# Altium footprint library TDK Corporation.PcbLib: 33 footprints (part 1 of 3)
Each footprint in its own frame and in the unit in brackets; x right, y up, seen from the top. Pads: shape width x height; smd on the part's side, far side on the other; paste and mask are expansions set on the pad; w line width, h text height; cw(c..) or ccw(c..) is an arc to the next point about the centre after c.
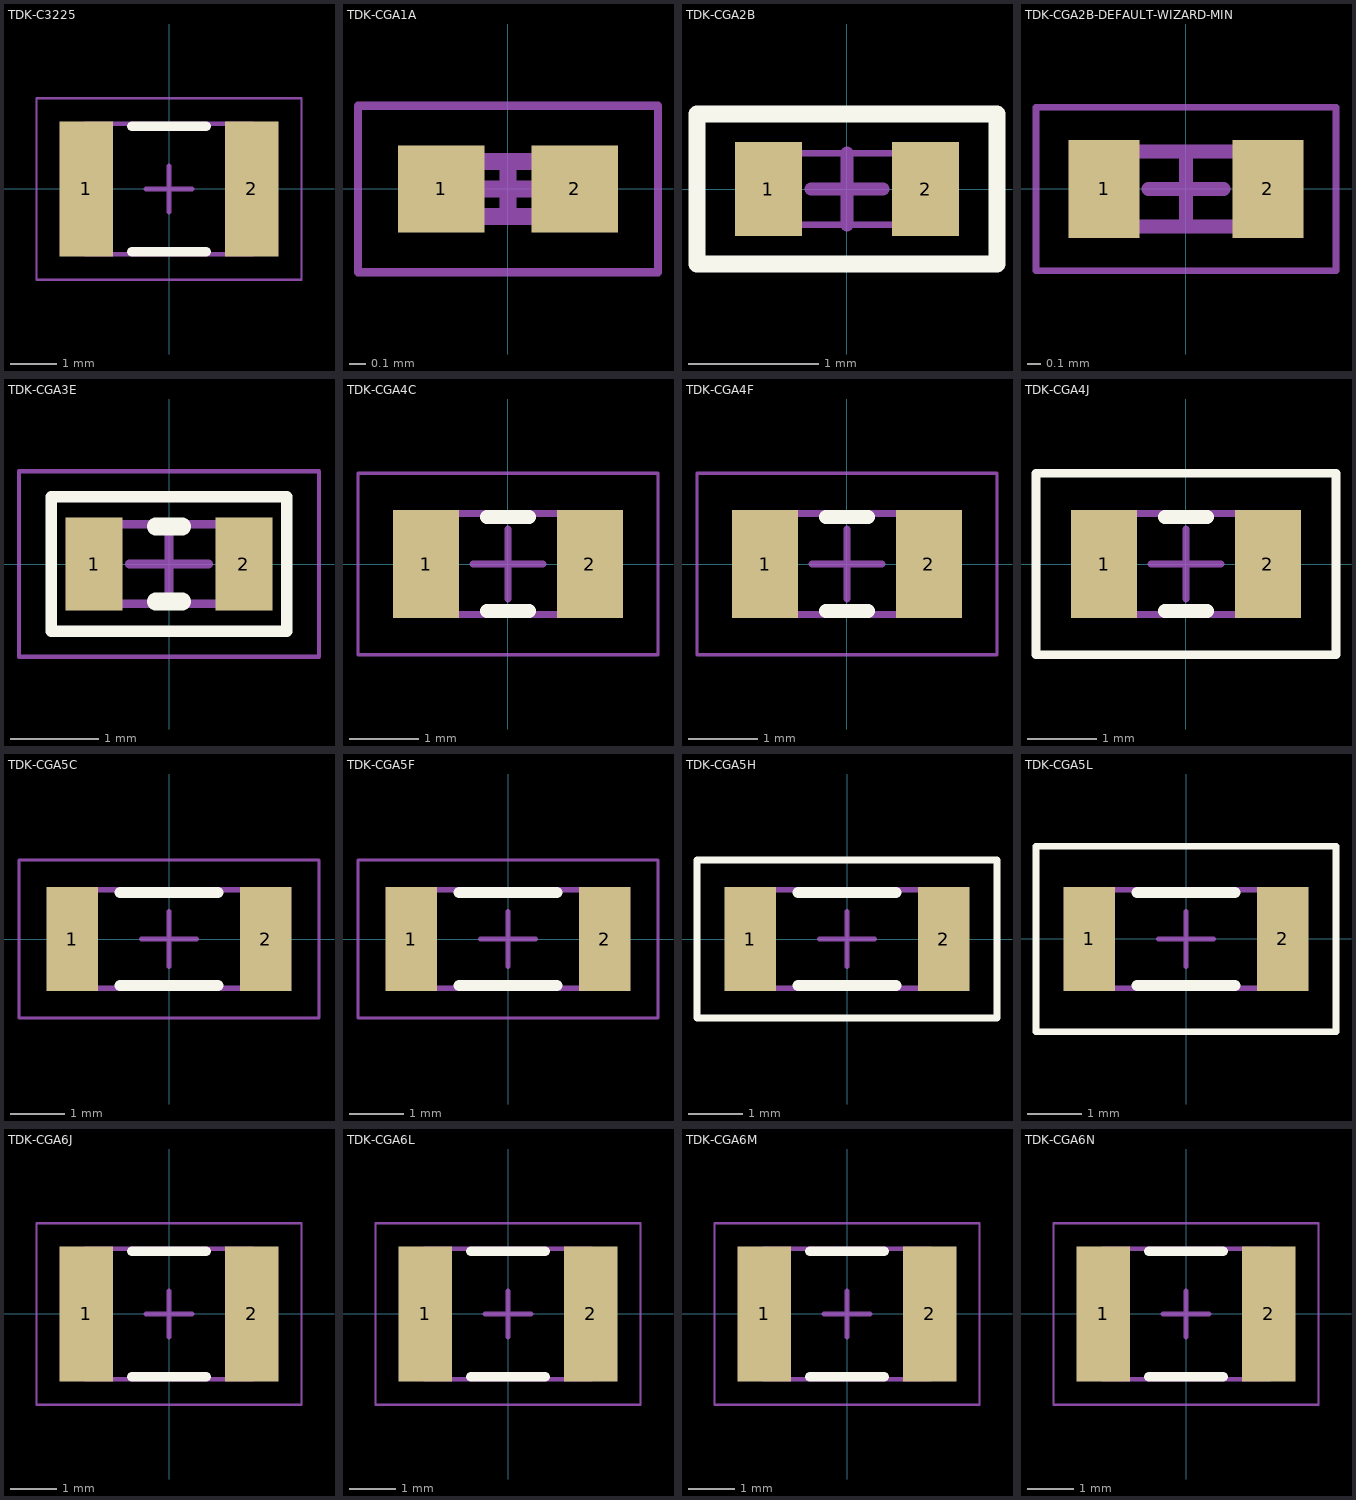
[diagram p0: the footprints below, top view; thin cyan lines are the x and y axes]

## TDK-C3225 [mm] "Chip Capacitor, 2-Leads, Body 3.20x2.50mm, IPC Low Density"
height 2.8
pads (2):
  rect 1.15x2.9 smd: 1(-1.775,0) 2(1.775,0)
Top Overlay:
  lines w0.2: -0.8,-1.35 0.8,-1.35 ; -0.8,1.35 0.8,1.35
Top Assembly:
  lines w0.1: -1.8,-1.4 1.8,-1.4 1.8,1.4 -1.8,1.4 -1.8,-1.4
Top Courtyard:
  lines w0.05: -2.85,-1.95 2.85,-1.95 2.85,1.95 -2.85,1.95 -2.85,-1.95
  lines w0.1: -0.5,0 0.5,0 ; 0,-0.5 0,0.5
3D body "TDK-C3225.step": height 2.8, standoff 0, extent -1.8,-1.4 1.8,1.4

## TDK-CGA1A [mm] "Chip Capacitor, 2-Leads, Body 0.60x0.30mm, IPC Low Density"
height 0.33
pads (2):
  rect 0.52x0.52 smd: 1(-0.4,0) 2(0.4,0)
Top Assembly:
  lines w0.1: -0.315,-0.165 -0.315,0.165 0.315,0.165 0.315,-0.165 -0.315,-0.165
Top Courtyard:
  lines w0.05: -0.9,-0.5 -0.9,0.5 0.9,0.5 0.9,-0.5 -0.9,-0.5
  lines w0.1: -0.165,0 0.165,0 ; 0,-0.165 0,0.165
3D body "TDK-CGA1A.step": height 0.33, standoff 0, extent -0.315,-0.165 0.315,0.165

## TDK-CGA2B [mm] "Chip Capacitor, 2-Leads, Body 1.00x0.50mm, IPC Low Density"
height 0.5
pads (2):
  rect 0.515x0.72 smd: 1(-0.602,0) 2(0.603,0)
Top Overlay:
  lines w0.127: -1.15,-0.575 -1.15,0.575 1.15,0.575 1.15,-0.575 -1.15,-0.575
Top Assembly:
  lines w0.05: -0.525,-0.275 0.525,-0.275 ; -0.525,0.275 0.525,0.275
  lines w0.1: -0.525,-0.275 -0.525,0.275 ; 0.525,-0.275 0.525,0.275
Top Courtyard:
  lines w0.05: -1.15,-0.575 1.15,-0.575 1.15,0.575 -1.15,0.575 -1.15,-0.575
  lines w0.1: -0.275,0 0.275,0 ; 0,-0.275 0,0.275
3D body: height 0.5, standoff 0, extent -0.525,-0.275 -0.425,0.275
3D body: height 0.5, standoff 0, extent 0.425,-0.275 0.525,0.275
3D body: height 0.5, standoff 0, extent -0.425,-0.275 0.425,0.275

## TDK-CGA2B-DEFAULT-WIZARD-MIN [mm] "Chip Capacitor, 2-Leads, Body 1.00x0.50mm, IPC Low Density"
height 0.55
pads (2):
  rect 0.52x0.72 smd: 1(-0.6,0) 2(0.6,0)
Top Assembly:
  lines w0.1: -0.525,-0.275 0.525,-0.275 0.525,0.275 -0.525,0.275 -0.525,-0.275
Top Courtyard:
  lines w0.05: -1.1,-0.6 1.1,-0.6 1.1,0.6 -1.1,0.6 -1.1,-0.6
  lines w0.1: -0.275,0 0.275,0 ; 0,-0.275 0,0.275
3D body "TDK0402-DEFAULT-WIZARD.step": height 0.55, standoff 0, extent -0.525,-0.275 0.525,0.275

## TDK-CGA3E [mm] "Chip Capacitor, 2-Leads, Body 1.60x0.80mm, IPC Low Density"
height 0.8
pads (2):
  rect 0.65x1.05 smd: 1(-0.85,0) 2(0.85,0)
Top Overlay:
  lines w0.127: -1.334,-0.762 1.333,-0.762 1.333,0.762 -1.334,0.762 -1.334,-0.762
  lines w0.2: -0.15,-0.425 0.15,-0.425 ; -0.15,0.425 0.15,0.425
Mechanical 13:
  lines w0.1: -0.85,-0.45 -0.85,0.45 0.85,0.45 0.85,-0.45 -0.85,-0.45
Mechanical 15:
  lines w0.05: -1.7,-1.05 1.7,-1.05 1.7,1.05 -1.7,1.05 -1.7,-1.05
  lines w0.1: -0.45,0 0.45,0 ; 0,-0.45 0,0.45
3D body: height 0.8, standoff 0, extent -0.65,-0.45 0.65,0.45
3D body: height 0.8, standoff 0, extent -0.85,-0.45 -0.65,0.45
3D body: height 0.8, standoff 0, extent 0.65,-0.45 0.85,0.45

## TDK-CGA4C [mm] "Chip Capacitor, 2-Leads, Body 2.00x1.25mm, IPC Low Density"
height 0.6
pads (2):
  rect 0.95x1.55 smd: 1(-1.175,0) 2(1.175,0)
Top Overlay:
  lines w0.2: -0.3,-0.675 0.3,-0.675 ; -0.3,0.675 0.3,0.675
Mechanical 13:
  lines w0.1: -1.1,-0.725 1.1,-0.725 1.1,0.725 -1.1,0.725 -1.1,-0.725
Mechanical 15:
  lines w0.05: -2.15,-1.3 2.15,-1.3 2.15,1.3 -2.15,1.3 -2.15,-1.3
  lines w0.1: -0.5,0 0.5,0 ; 0,-0.5 0,0.5
3D body: height 0.6, standoff 0, extent 0.9,-0.725 1.1,0.725
3D body: height 0.6, standoff 0, extent -1.1,-0.725 -0.9,0.725
3D body: height 0.6, standoff 0, extent -0.9,-0.725 0.9,0.725

## TDK-CGA4F [mm] "Chip Capacitor, 2-Leads, Body 2.00x1.25mm, IPC Low Density"
height 0.85
pads (2):
  rect 0.95x1.55 smd: 1(-1.175,0) 2(1.175,0)
Top Overlay:
  lines w0.2: -0.3,-0.675 0.3,-0.675 ; -0.3,0.675 0.3,0.675
Mechanical 13:
  lines w0.1: -1.1,-0.725 -1.1,0.725 1.1,0.725 1.1,-0.725 -1.1,-0.725
Mechanical 15:
  lines w0.05: -2.15,-1.3 -2.15,1.3 2.15,1.3 2.15,-1.3 -2.15,-1.3
  lines w0.1: -0.5,0 0.5,0 ; 0,-0.5 0,0.5
3D body: height 0.85, standoff 0, extent -0.9,-0.725 0.9,0.725
3D body: height 0.85, standoff 0, extent -1.1,-0.725 -0.9,0.725
3D body: height 0.85, standoff 0, extent 0.9,-0.725 1.1,0.725

## TDK-CGA4J [mm] "Chip Capacitor, 2-Leads, Body 2.00x1.25mm, IPC Low Density"
height 1.25
pads (2):
  rect 0.95x1.55 smd: 1(-1.175,0) 2(1.175,0)
Top Overlay:
  lines w0.127: -2.15,-1.3 -2.15,1.3 2.15,1.3 2.15,-1.3 -2.15,-1.3
  lines w0.2: -0.3,-0.675 0.3,-0.675 ; -0.3,0.675 0.3,0.675
Mechanical 13:
  lines w0.1: -1.1,-0.725 -1.1,0.725 1.1,0.725 1.1,-0.725 -1.1,-0.725
Mechanical 15:
  lines w0.1: -0.5,0 0.5,0 ; 0,-0.5 0,0.5
3D body: height 1.25, standoff 0, extent -0.9,-0.725 0.9,0.725
3D body: height 1.25, standoff 0, extent -1.1,-0.725 -0.9,0.725
3D body: height 1.25, standoff 0, extent 0.9,-0.725 1.1,0.725

## TDK-CGA5C [mm] "Chip Capacitor, 2-Leads, Body 3.20x1.60mm, IPC Low Density"
height 0.6
pads (2):
  rect 0.95x1.9 smd: 1(-1.775,0) 2(1.775,0)
Top Overlay:
  lines w0.2: -0.9,-0.85 0.9,-0.85 ; -0.9,0.85 0.9,0.85
Mechanical 13:
  lines w0.1: -1.7,-0.9 1.7,-0.9 1.7,0.9 -1.7,0.9 -1.7,-0.9
Mechanical 15:
  lines w0.05: -2.75,-1.45 2.75,-1.45 2.75,1.45 -2.75,1.45 -2.75,-1.45
  lines w0.1: -0.5,0 0.5,0 ; 0,-0.5 0,0.5
3D body: height 0.6, standoff 0, extent 1.5,-0.9 1.7,0.9
3D body: height 0.6, standoff 0, extent -1.7,-0.9 -1.5,0.9
3D body: height 0.6, standoff 0, extent -1.5,-0.9 1.5,0.9

## TDK-CGA5F [mm] "Chip Capacitor, 2-Leads, Body 3.20x1.60mm, IPC Low Density"
height 0.85
pads (2):
  rect 0.95x1.9 smd: 1(-1.775,0) 2(1.775,0)
Top Overlay:
  lines w0.2: -0.9,-0.85 0.9,-0.85 ; -0.9,0.85 0.9,0.85
Mechanical 13:
  lines w0.1: -1.7,-0.9 1.7,-0.9 1.7,0.9 -1.7,0.9 -1.7,-0.9
Mechanical 15:
  lines w0.05: -2.75,-1.45 2.75,-1.45 2.75,1.45 -2.75,1.45 -2.75,-1.45
  lines w0.1: -0.5,0 0.5,0 ; 0,-0.5 0,0.5
3D body: height 0.85, standoff 0, extent 1.5,-0.9 1.7,0.9
3D body: height 0.85, standoff 0, extent -1.7,-0.9 -1.5,0.9
3D body: height 0.85, standoff 0, extent -1.5,-0.9 1.5,0.9

## TDK-CGA5H [mm] "Chip Capacitor, 2-Leads, Body 3.20x1.60mm, IPC Low Density"
height 1.15
pads (2):
  rect 0.95x1.9 smd: 1(-1.775,0) 2(1.775,0)
Top Overlay:
  lines w0.127: -2.75,-1.45 -2.75,1.45 2.75,1.45 2.75,-1.45 -2.75,-1.45
  lines w0.2: -0.9,-0.85 0.9,-0.85 ; -0.9,0.85 0.9,0.85
Mechanical 13:
  lines w0.1: -1.7,-0.9 -1.7,0.9 1.7,0.9 1.7,-0.9 -1.7,-0.9
Mechanical 15:
  lines w0.05: -2.75,-1.45 2.75,-1.45 2.75,1.45 -2.75,1.45 -2.75,-1.45
  lines w0.1: -0.5,0 0.5,0 ; 0,-0.5 0,0.5
3D body: height 1.15, standoff 0, extent -1.5,-0.9 1.5,0.9
3D body: height 1.15, standoff 0, extent -1.7,-0.9 -1.5,0.9
3D body: height 1.15, standoff 0, extent 1.5,-0.9 1.7,0.9

## TDK-CGA5L [mm] "Chip Capacitor, 2-Leads, Body 3.20x1.60mm, IPC Low Density"
height 1.6
pads (2):
  rect 0.95x1.9 smd: 1(-1.775,0) 2(1.775,0)
Top Overlay:
  lines w0.127: -2.75,-1.7 -2.75,1.7 2.75,1.7 2.75,-1.7 -2.75,-1.7
  lines w0.2: -0.9,-0.85 0.9,-0.85 ; -0.9,0.85 0.9,0.85
Mechanical 13:
  lines w0.1: -1.7,-0.9 -1.7,0.9 1.7,0.9 1.7,-0.9 -1.7,-0.9
Mechanical 15:
  lines w0.05: -2.75,-1.7 -2.75,1.7 2.75,1.7 2.75,-1.7 -2.75,-1.7
  lines w0.1: -0.5,0 0.5,0 ; 0,-0.5 0,0.5
3D body: height 1.6, standoff 0, extent -1.5,-0.9 1.5,0.9
3D body: height 1.6, standoff 0, extent -1.7,-0.9 -1.5,0.9
3D body: height 1.6, standoff 0, extent 1.5,-0.9 1.7,0.9

## TDK-CGA6J [mm] "Chip Capacitor, 2-Leads, Body 3.20x2.50mm, IPC Low Density"
height 1.25
pads (2):
  rect 1.15x2.9 smd: 1(-1.775,0) 2(1.775,0)
Top Overlay:
  lines w0.2: -0.8,-1.35 0.8,-1.35 ; -0.8,1.35 0.8,1.35
Mechanical 13:
  lines w0.1: -1.8,-1.4 -1.8,1.4 1.8,1.4 1.8,-1.4 -1.8,-1.4
Mechanical 15:
  lines w0.05: -2.85,-1.95 -2.85,1.95 2.85,1.95 2.85,-1.95 -2.85,-1.95
  lines w0.1: -0.5,0 0.5,0 ; 0,-0.5 0,0.5
3D body: height 1.25, standoff 0, extent -1.6,-1.4 1.6,1.4
3D body: height 1.25, standoff 0, extent -1.8,-1.4 -1.6,1.4
3D body: height 1.25, standoff 0, extent 1.6,-1.4 1.8,1.4

## TDK-CGA6L [mm] "Chip Capacitor, 2-Leads, Body 3.20x2.50mm, IPC Low Density"
height 1.6
pads (2):
  rect 1.15x2.9 smd: 1(-1.775,0) 2(1.775,0)
Top Overlay:
  lines w0.2: -0.8,-1.35 0.8,-1.35 ; -0.8,1.35 0.8,1.35
Mechanical 13:
  lines w0.1: -1.8,-1.4 -1.8,1.4 1.8,1.4 1.8,-1.4 -1.8,-1.4
Mechanical 15:
  lines w0.05: -2.85,-1.95 -2.85,1.95 2.85,1.95 2.85,-1.95 -2.85,-1.95
  lines w0.1: -0.5,0 0.5,0 ; 0,-0.5 0,0.5
3D body: height 1.6, standoff 0, extent -1.6,-1.4 1.6,1.4
3D body: height 1.6, standoff 0, extent -1.8,-1.4 -1.6,1.4
3D body: height 1.6, standoff 0, extent 1.6,-1.4 1.8,1.4

## TDK-CGA6M [mm] "Chip Capacitor, 2-Leads, Body 3.20x2.50mm, IPC Low Density"
height 2
pads (2):
  rect 1.15x2.9 smd: 1(-1.775,0) 2(1.775,0)
Top Overlay:
  lines w0.2: -0.8,-1.35 0.8,-1.35 ; -0.8,1.35 0.8,1.35
Mechanical 13:
  lines w0.1: -1.8,-1.4 -1.8,1.4 1.8,1.4 1.8,-1.4 -1.8,-1.4
Mechanical 15:
  lines w0.05: -2.85,-1.95 -2.85,1.95 2.85,1.95 2.85,-1.95 -2.85,-1.95
  lines w0.1: -0.5,0 0.5,0 ; 0,-0.5 0,0.5
3D body: height 2, standoff 0, extent -1.6,-1.4 1.6,1.4
3D body: height 2, standoff 0, extent -1.8,-1.4 -1.6,1.4
3D body: height 2, standoff 0, extent 1.6,-1.4 1.8,1.4

## TDK-CGA6N [mm] "Chip Capacitor, 2-Leads, Body 3.20x2.50mm, IPC Low Density"
height 2.3
pads (2):
  rect 1.15x2.9 smd: 1(-1.775,0) 2(1.775,0)
Top Overlay:
  lines w0.2: -0.8,-1.35 0.8,-1.35 ; -0.8,1.35 0.8,1.35
Mechanical 13:
  lines w0.1: -1.8,-1.4 -1.8,1.4 1.8,1.4 1.8,-1.4 -1.8,-1.4
Mechanical 15:
  lines w0.05: -2.85,-1.95 -2.85,1.95 2.85,1.95 2.85,-1.95 -2.85,-1.95
  lines w0.1: -0.5,0 0.5,0 ; 0,-0.5 0,0.5
3D body: height 2.3, standoff 0, extent -1.6,-1.4 1.6,1.4
3D body: height 2.3, standoff 0, extent -1.8,-1.4 -1.6,1.4
3D body: height 2.3, standoff 0, extent 1.6,-1.4 1.8,1.4